# EAGLE library part AD7887BRZ (library tobylib)
AD7887: 2-channel 125Ksps 12bit ADC Datasheet <http://www.analog.com/media/en/technical-documentation/data-sheets/AD7887.pdf>
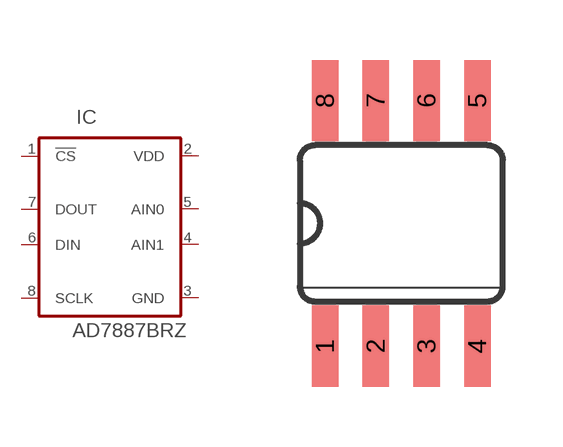
[diagram p1: symbol with the pads of SO08; footprint SO08]

Designator prefix IC

## AD7887BRZ  [SO08]
1  !CS
2  VDD  pwr
3  GND  pwr
4  AIN1  in
5  AIN0  in
6  DIN  in
7  DOUT  out
8  SCLK  in

## Footprint SO08 (pad centres in mm)
SOIC8
smd 0.66 x 2.032: 1 -1.905,-3.073; 2 -0.635,-3.073; 3 0.635,-3.073; 4 1.905,-3.073; 5 1.905,3.073; 6 0.635,3.073; 7 -0.635,3.073; 8 -1.905,3.073